# Altium footprint library NON SMD NON POLAR CAPACITOR.PcbLib: 41 footprints (part 1 of 3)
Each footprint in its own frame and in the unit in brackets; x right, y up, seen from the top. Pads: shape width x height; smd on the part's side, far side on the other; paste and mask are expansions set on the pad; w line width, h text height; cw(c..) or ccw(c..) is an arc to the next point about the centre after c.
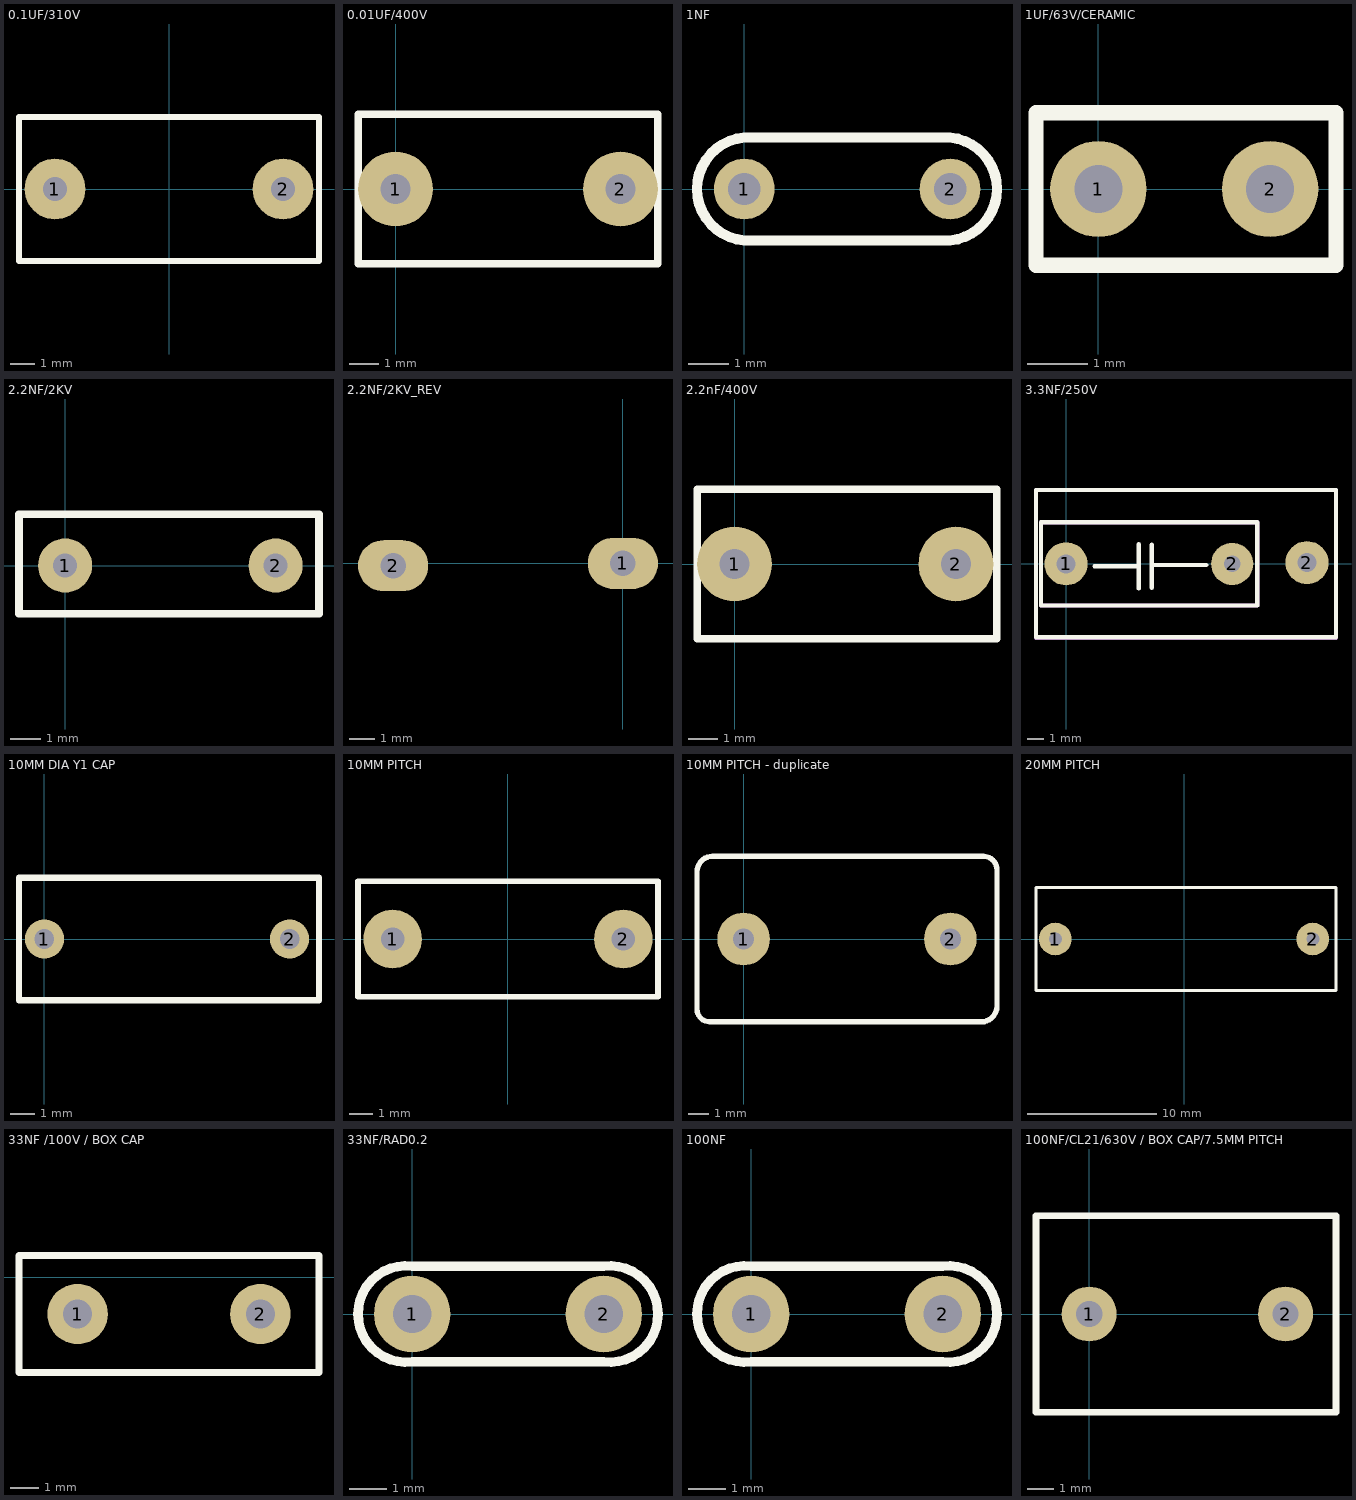
[diagram p0: the footprints below, top view; thin cyan lines are the x and y axes]

## 0.1UF/310V [mil]
pads (2):
  round 100 / inner round 62 / far side round 100 hole 40: 1(-187.01,0) 2(187.01,0)
Top Overlay:
  lines w10: -246.06,-118.11 246.06,-118.11 246.06,118.11 -246.06,118.11 -246.06,-118.11

## 0.01UF/400V [mil]
pads (2):
  round 100 / inner round 62 / far side round 100 hole 40: 1(0,0) 2(300,0)
Top Overlay:
  lines w10: -50,-100 -50,100 350,100 350,-100 -50,-100

## 1NF [mil]
pads (2):
  round 59.03 hole 31.5: 1(0,0) 2(200,0)
Top Overlay:
  lines w10: 0,-50 cw(c4.18,0) 0,50 200,50 cw(c195.38,0) 200,-50 0,-50

## 1UF/63V/CERAMIC [mil]
pads (2):
  round 63 hole 31.5: 1(0,0) 2(112.5,0)
Top Overlay:
  lines w10: -40.8,-50 155.6,-50 155.6,50 -40.8,50 -40.8,-50

## 2.2NF/2KV [mm]
pads (2):
  round 1.8 hole 0.8: 1(0,0) 2(7,0)
Top Overlay:
  lines w0.254: -1.534,1.697 -1.534,-1.605 8.443,-1.605 8.443,1.707 -1.534,1.707

## 2.2NF/2KV_REV [mil]
pads (2):
  oval 108x78.73 / inner round 78.73 / far side oval 108x78.73 hole 39.37: 1(0,0) 2(-353.42,-3.45)
Bottom Overlay:
  lines w10: 14.2,64.4 44.87,64.4 44.87,-66.27 -397.12,-66.27 -397.12,64.13 19.4,64.13

## 2.2nF/400V [mil]
pads (2):
  round 100 / inner round 62 / far side round 100 hole 40: 1(0,0) 2(295.28,0)
Top Overlay:
  lines w10: -50,-100 -50,100 350,100 350,-100 -50,-100

## 3.3NF/250V [mil]
pads (4):
  round 102 / inner round 62 / far side round 102 hole 45: 1(0,0) 2(570.87,3)
  round 100 hole 39.37: 1(0.4,0) 2(393.7,0)
Top Overlay:
  lines w10: 67.2,-5.6 168,-5.6 ; 172,-58.6 172,46.4 ; 203,-56.6 203,45.4 ; 207,-2.6 332,-2.6 ; -71.2,-174 639.6,-174 639.6,175 -71.2,175 -71.2,-174 ; -59.2,-98.4 -59.2,-92 -59.2,98.4 452.8,98.4 452.8,-98.4 -59.2,-98.4
Mechanical 1:
  lines w10: -71.2,-175 -70.8,-175.4 639.6,-175.58 639.6,175 -71.2,175 -71.2,-175 ; -59.2,-98.4 -59.2,-92 -59.2,98.4 452.8,98.4 452.8,-98.4 -59.2,-98.4

## 10MM DIA Y1 CAP [mil]
pads (2):
  round 63 hole 31.5: 1(0,0) 2(393.7,0)
Top Overlay:
  lines w10: -40.8,-98.43 440.94,-98.43 440.94,98.43 -40.8,98.43 -40.8,-98.43

## 10MM PITCH [mil]
pads (2):
  round 100 / inner round 62 / far side round 100 hole 40: 1(-196.85,0) 2(196.85,0)
Top Overlay:
  lines w10: -255.91,-98.43 255.91,-98.43 255.91,98.43 -255.91,98.43 -255.91,-98.43

## 10MM PITCH - duplicate [mil]
pads (2):
  round 100 / inner round 62 / far side round 100 hole 40: 1(0,0) 2(393.7,0)
Top Overlay:
  lines w10: 452.36,-157.48 ccw(c452.36,-127.56) 482.28,-127.56 ; 458.66,-157.48 -64.6,-157.48 cw(c-64.6,-133.5) -88.58,-133.5 -88.58,127.56 cw(c-58.66,127.56) -58.66,157.48 456.3,157.48 cw(c456.3,131.5) 482.28,131.5 482.28,-133.86

## 20MM PITCH [mil]
pads (2):
  round 100 / inner round 62 / far side round 100 hole 40: 1(-393.7,0) 2(393.7,0)
Top Overlay:
  lines w10: -452.76,-157.48 464.57,-157.48 464.57,157.48 -452.76,157.48 -452.76,-157.48

## 33NF /100V / BOX CAP [mil]
pads (2):
  round 82.67 hole 39.37: 1(150,-50) 2(400,-50)
Top Overlay:
  lines w10: 70,-130 480,-130 480,30 70,30 70,0 70,-130

## 33NF/RAD0.2 [mil]
pads (2):
  round 80 / inner round 62 / far side round 80 hole 40: 1(0,0) 2(200,0)
Top Overlay:
  lines w10: 0,-50 cw(c-6.25,0) 0,50 200,50 cw(c206.25,0) 200,-50 0,-50

## 100NF [mil]
pads (2):
  round 80 / inner round 62 / far side round 80 hole 40: 1(0,0) 2(200,0)
Top Overlay:
  lines w10: 0,-50 cw(c-6.25,0) 0,50 200,50 cw(c206.25,0) 200,-50 0,-50

## 100NF/CL21/630V / BOX CAP/7.5MM PITCH [mm]
pads (2):
  round 2.1 hole 1: 1(0,0) 2(7.5,0)
Top Overlay:
  lines w0.254: -2.032,-3.75 -2.032,1.27 -2.032,3.75 9.428,3.75 9.428,-3.75 -2.032,-3.75